# Altium footprint library Batteries.PcbLib: 1 footprints
Each footprint in its own frame and in the unit in brackets; x right, y up, seen from the top. Pads: shape width x height; smd on the part's side, far side on the other; paste and mask are expansions set on the pad; w line width, h text height; cw(c..) or ccw(c..) is an arc to the next point about the centre after c.
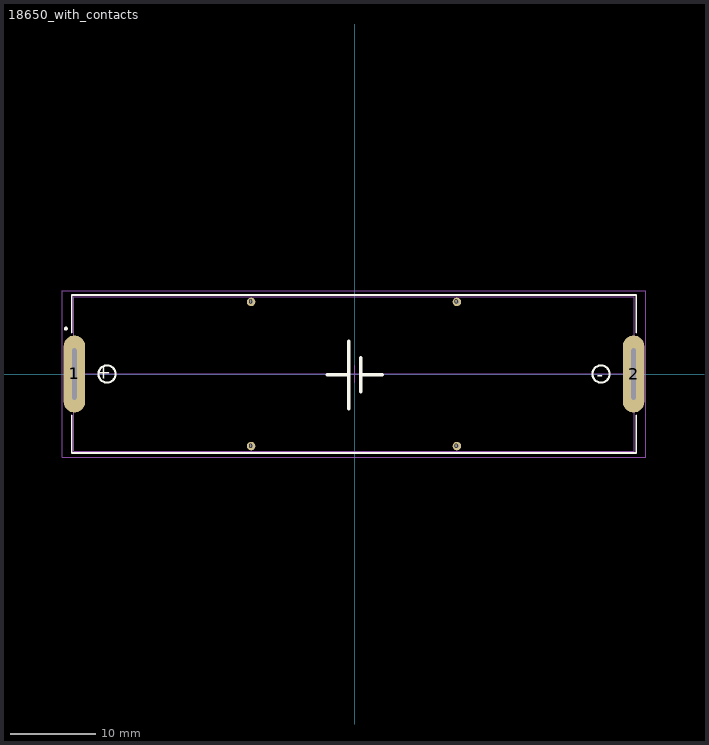
[diagram p0: the footprint, top view; thin cyan lines are the x and y axes]

## 18650_with_contacts [mm]
pads (6):
  round 1 hole 0.5: 0(-12.1,-8.4) 0(-12.1,8.4) 0(11.9,-8.4) 0(11.9,8.4)
  oval 2.5x9 hole 0.5 slot 6 at 90 deg: 1(-32.7,0)
  oval 2.5x9 / inner oval 1.5x0.9 / far side oval 2.5x9 hole 0.5 slot 6 at 90 deg: 2(32.5,0)
Top Overlay:
  circle w0.254: c-28.9,0 r1
  circle w0.254: c28.7,0 r1
  circle w0.254: c-33.7,5.3 r0.1
  lines w0.2: -33,-4.8 -33,-9.2 30.6,-9.2 32.8,-9.2 32.8,-4.8 ; -33,4.8 -33,9.2 31.5,9.2 ; 30.6,9.2 32.8,9.2 32.8,4.8
  lines w0.4: -3.2,-0.1 -0.7,-0.1 ; -0.7,-4.05 -0.7,3.85 ; 0.7,-2.1 0.7,1.9 ; 0.7,-0.1 3.2,-0.1
  text "+" at -28.392,0.762 h1.52
  text "-" at 28.192,-0.762 h1.52
Mechanical 13:
  lines w0.1: -32.8,0 32.6,0 ; -32.8,-9 -32.8,9 32.6,9 32.6,-9 -32.8,-9
Mechanical 15:
  lines w0.1: -1,0 1,0 ; 0,-1 0,1 ; -34.1,-9.7 33.9,-9.7 33.9,9.7 -34.1,9.7 -34.1,-9.7
3D body "User Library-18650-1.step": height 19, standoff -12.96, extent -32.75,-9 32.55,9